# Altium footprint library Train2.PCBLIB: 223 footprints (part 12 of 14)
Each footprint in its own frame and in the unit in brackets; x right, y up, seen from the top. Pads: shape width x height; smd on the part's side, far side on the other; paste and mask are expansions set on the pad; w line width, h text height; cw(c..) or ccw(c..) is an arc to the next point about the centre after c.
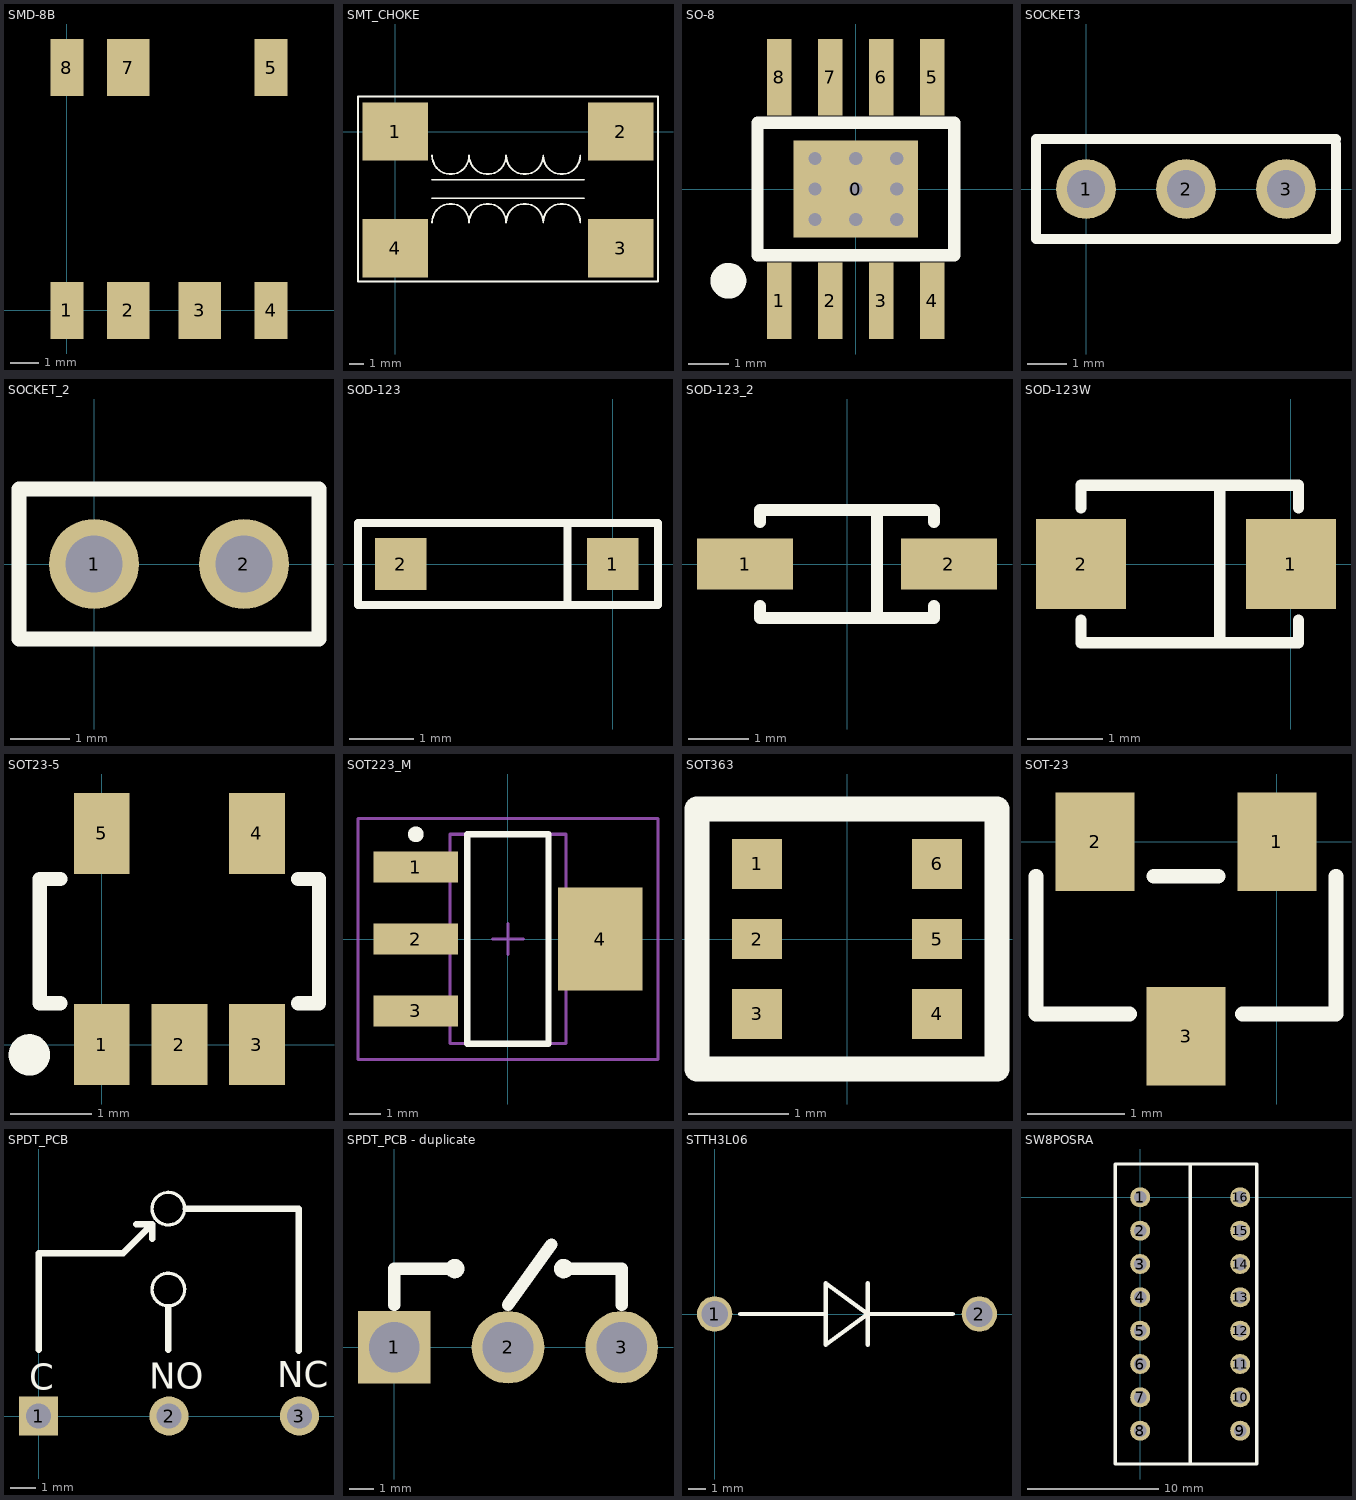
[diagram p11: the footprints below, top view; thin cyan lines are the x and y axes]

## SMD-8B [mil]
pads (7):
  rect 46x80 smd: 1(0,0) 4(286,0) 5(286,340) 8(0,340)
  rect 60x80 smd: 2(86,0) 3(186,0) 7(86,340)

## SMT_CHOKE [mil]
pads (4):
  rect 177x157 smd: 1(0,0) 2(610,0) 3(610,-315) 4(0,-315)
Top Overlay:
  lines w5: 100,-245 cw(c150,-245) 200,-245 cw(c250,-245) 300,-245 cw(c350,-245) 400,-245 cw(c450,-245) 500,-245 ; 100,-180 510,-180 ; 100,-130 510,-130 ; 100,-65 ccw(c150,-65) 200,-65 ccw(c250,-65) 300,-65 ccw(c350,-65) 400,-65 ccw(c450,-65) 500,-65 ; -100,-405 -100,95 710,95 710,-405 -100,-405

## SO-8 [mm]
pads (9):
  rect 3.1x2.41 smd: 0(0,0)
  rect 0.61x1.91 smd: 1(-1.905,-2.781) 2(-0.635,-2.781) 3(0.635,-2.781) 4(1.905,-2.781) 5(1.905,2.781) 6(0.635,2.781) 7(-0.635,2.781) 8(-1.905,2.781)
via 0,0 diameter 0.686 hole 0.33
via 1.016,0 diameter 0.686 hole 0.33
via 1.016,-0.762 diameter 0.686 hole 0.33
via 0,-0.762 diameter 0.686 hole 0.33
via -1.016,-0.762 diameter 0.686 hole 0.33
via -1.016,0 diameter 0.686 hole 0.33
via -1.016,0.762 diameter 0.686 hole 0.33
via 0,0.762 diameter 0.686 hole 0.33
via 1.016,0.762 diameter 0.686 hole 0.33
Top Overlay:
  circle w0.635: c-3.175,-2.286 r0.127
  lines w0.305: -2.451,-1.651 -2.451,1.651 2.451,1.651 2.451,-1.651 -2.451,-1.651
3D body "SOIC-8.STEP": height 1.75, standoff 0, extent -2.45,-3 2.45,3

## SOCKET3 [mil]
pads (3):
  round 60 hole 38: 1(0,0) 2(100,0) 3(200,0)
Top Overlay:
  lines w10: 250,45 250,-50 -50,-50 -50,50 250,50

## SOCKET_2 [mil]
pads (2):
  round 60 hole 38: 1(0,0) 2(100,0)
Top Overlay:
  lines w10: -50,-50 150,-50 150,50 -50,50 -50,-50

## SOD-123 [mil]
pads (2):
  rect 31.5x31.5 smd: 1(0,0) 2(-129,0)
Top Overlay:
  lines w5: -27.5,-25 -27.5,25 ; -155,-25 27.5,-25 27.5,25 -155,25 -155,-25

## SOD-123_2 [mm] "SOD-123; 2 Leads; Body 2.7 x 1.6 mm, (LxW)"
height 1.35
pads (2):
  rect 1.6x0.85 smd: 1(-1.7,0) 2(1.7,0)
Top Overlay:
  lines w0.2: -1.45,-0.7 -1.45,-0.9 1.45,-0.9 1.45,-0.7 ; -1.45,0.7 -1.45,0.9 1.45,0.9 1.45,0.7 ; 0.5,-0.9 0.5,0.9

## SOD-123W [mm] "SOD-123W"
height 1.35
pads (2):
  rect 1.2x1.2 smd mask+0.1: 1(0,0) 2(-2.8,0)
Top Overlay:
  lines w0.15: -2.8,-0.75 -2.8,-1.05 0.099,-1.05 0.099,-0.75 ; -2.8,0.75 -2.8,1.05 0.099,1.05 0.099,0.75 ; -0.95,-1.05 -0.95,1.05

## SOT23-5 [mil]
pads (5):
  rect 27x39 smd: 1(0,0) 2(37.5,0) 3(75,0) 4(75,102) 5(0,102)
Top Overlay:
  circle w10: c-35,-5 r5
  lines w7: -20,20 -30,20 -30,50 -30,80 -20,80 ; 95,20 105,20 105,50 105,80 95,80
3D body "User Library-SOT23-5-1.STEP": height 51.18, standoff 0, extent -21.56,-9.05 96.55,109.06

## SOT223_M [mm] "SOT223, 4-Leads, Body 6.5x3.5mm, Pitch 2.3mm, Lead Span 7mm, IPC Low Density"
height 1.7
pads (4):
  rect 2.7x1 smd: 1(-2.95,2.3) 2(-2.95,0) 3(-2.95,-2.3)
  rect 2.7x3.3 smd: 4(2.95,0)
Top Overlay:
  circle w0.25: c-2.95,3.35 r0.125
  lines w0.2: -1.3,-3.35 1.3,-3.35 1.3,3.35 -1.3,3.35 -1.3,-3.35
Mechanical 13:
  lines w0.1: -1.85,-3.35 1.85,-3.35 1.85,3.35 -1.85,3.35 -1.85,-3.35
Mechanical 15:
  lines w0.1: -0.5,0 0.5,0 ; 0,-0.5 0,0.5 ; -4.8,-3.85 4.8,-3.85 4.8,3.85 -4.8,3.85 -4.8,-3.85
3D body: height 1.7, standoff 0, extent -1.85,-3.35 1.85,3.35
3D body "SW3dPS-SOT-223-1.STEP": height 1.65, standoff 0, extent -3.576,-3.25 3.424,3.25

## SOT363 [mm]
pads (6):
  rect 0.5x0.5 smd: 1(-0.9,0.75) 3(-0.9,-0.75) 4(0.9,-0.75) 6(0.9,0.75)
  rect 0.5x0.4 smd: 2(-0.9,0) 5(0.9,0)
Top Overlay:
  lines w0.25: -1.5,-1.3 -1.5,0 -1.5,1.3 1.5,1.3 1.5,-1.3 1.1,-1.3 -1.5,-1.3
  text "." at -2.2,0.7 h1.52

## SOT-23 [mil]
pads (3):
  rect 32x40 smd: 1(0,0) 2(-74,0) 3(-37,-79)
Top Overlay:
  lines w6: -98,-14 -98,-70 -60,-70 ; -50,-14 -24,-14 ; -14,-70 24,-70 24,-14
3D body "SW3dPS-SOT-23.STEP": height 38, standoff -1.27, extent -93.99,-87.63 20,7.64

## SPDT_PCB [mil]
pads (3):
  rect 60x60 hole 38: 1(0,0)
  round 60 hole 38: 2(200,0) 3(400,0)
Top Overlay:
  lines w5: 174,194 ccw(c199,194) 199,219 ; 174,318 ccw(c199,318) 199,343 ; 199,169 cw(c199,194) 224,194 ; 199,293 cw(c199,318) 224,318
  lines w10: 0,102 0,250 130,250 174,294 ; 150,294 174,294 ; 174,272 174,294 ; 199,102 199,167 ; 226,318 399,318 399,100
  text "NO" at 170,42 h40
  text "NC" at 366,44 h40
  text "C" at -14,40 h40

## SPDT_PCB - duplicate [mm]
pads (3):
  rect 3x3 hole 2.1: 1(0,0)
  round 3 hole 2.1: 2(4.7,0) 3(9.4,0)
Top Overlay:
  circle w0.305: c7,3.25 r0.25
  circle w0.305: c2.5,3.25 r0.25
  lines w0.508: 0,1.75 0,3.25 2.5,3.25 ; 4.7,1.75 6.5,4.25 ; 7,3.25 9.4,3.25 9.4,1.75
3D body "7101SYZBE CK switch.STEP": height 3.69, standoff -28.7, extent -1.588,-3.43 11.125,3.43

## STTH3L06 [mil]
pads (2):
  round 80 hole 60: 1(0,0) 2(600,0)
Top Overlay:
  lines w10: 58,0 252,0 ; 347,-70 347,70 ; 540,0 347,0 ; 347,0 252,70 252,-70 347,0

## SW8POSRA [mil]
pads (16):
  round 60 hole 38: 1(0,0) 2(0,-100) 3(0,-200) 4(0,-300) 5(0,-400) 6(0,-500) 7(0,-600) 8(0,-700) 9(300,-700) 10(300,-600) 11(300,-500) 12(300,-400) 13(300,-300) 14(300,-200) 15(300,-100) 16(300,0)
Top Overlay:
  lines w10: 150,-800 350,-800 350,100 150,100 ; 150,-800 150,100 ; 150,-800 -75,-800 -75,100 150,100